# Altium schematic symbol library TMS320F28027.SchLib: 1 symbol
Pins are listed as number, name and electrical type; pins without a type are passive.

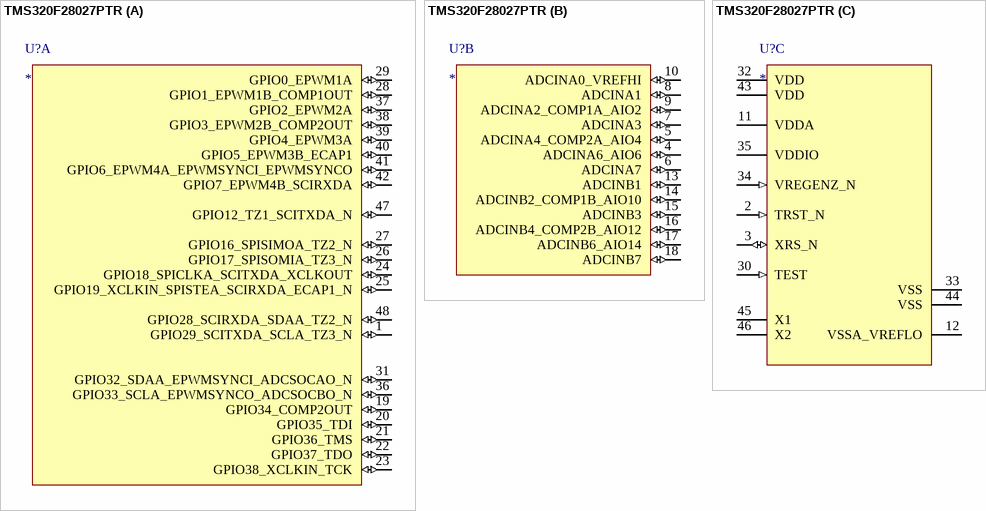
[diagram p0: symbol TMS320F28027PTR]

## TMS320F28027PTR
designator U?
Piccolo™ Microcontrollers; Manufacturer: Texas Instruments; PartNumber: TMS320F28027PTR; RefDes: RefDes; Type: DEV; Value: Value
footprint PT0048A_N
part A pins: 1 GPIO29_SCITXDA_SCLA_TZ3_N (io), 19 GPIO34_COMP2OUT (io), 20 GPIO35_TDI (io), 21 GPIO36_TMS (io), 22 GPIO37_TDO (io), 23 GPIO38_XCLKIN_TCK (io), 24 GPIO18_SPICLKA_SCITXDA_XCLKOUT (io), 25 GPIO19_XCLKIN_SPISTEA_SCIRXDA_ECAP1_N (io), 26 GPIO17_SPISOMIA_TZ3_N (io), 27 GPIO16_SPISIMOA_TZ2_N (io), 28 GPIO1_EPWM1B_COMP1OUT (io), 29 GPIO0_EPWM1A (io), 31 GPIO32_SDAA_EPWMSYNCI_ADCSOCAO_N (io), 36 GPIO33_SCLA_EPWMSYNCO_ADCSOCBO_N (io), 37 GPIO2_EPWM2A (io), 38 GPIO3_EPWM2B_COMP2OUT (io), 39 GPIO4_EPWM3A (io), 40 GPIO5_EPWM3B_ECAP1 (io), 41 GPIO6_EPWM4A_EPWMSYNCI_EPWMSYNCO (io), 42 GPIO7_EPWM4B_SCIRXDA (io), 47 GPIO12_TZ1_SCITXDA_N (io), 48 GPIO28_SCIRXDA_SDAA_TZ2_N (io)
part B pins: 4 ADCINA6_AIO6 (io), 5 ADCINA4_COMP2A_AIO4 (io), 6 ADCINA7 (io), 7 ADCINA3 (io), 8 ADCINA1 (io), 9 ADCINA2_COMP1A_AIO2 (io), 10 ADCINA0_VREFHI (io), 13 ADCINB1 (io), 14 ADCINB2_COMP1B_AIO10 (io), 15 ADCINB3 (io), 16 ADCINB4_COMP2B_AIO12 (io), 17 ADCINB6_AIO14 (io), 18 ADCINB7 (io)
part C pins: 2 TRST_N (in), 3 XRS_N (io), 11 VDDA (power), 12 VSSA_VREFLO (power), 30 TEST (in), 32 VDD (power), 33 VSS (power), 34 VREGENZ_N (in), 35 VDDIO (power), 43 VDD (power), 44 VSS (power), 45 X1, 46 X2